# EAGLE library part GATE_DRIVER (library VESC_SHIT)
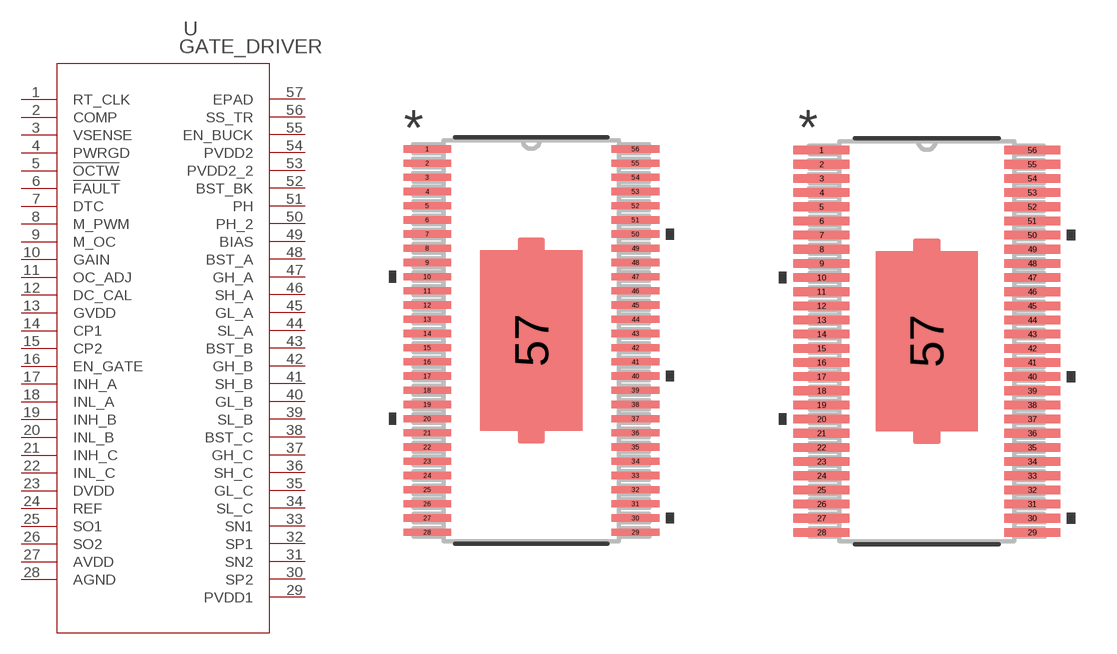
[diagram p3: symbol with the pads of DCA56_6P35X3P61; footprints DCA56_6P35X3P61, DCA56_6P35X3P61-M]

Designator prefix U

## GATE_DRIVER (MANUFACTURER_PART_NUMBER: DRV8302DCAR; VENDOR: Texas Instruments)  [DCA56_6P35X3P61]
1  RT_CLK  in
2  COMP  out
3  VSENSE  in
4  PWRGD  in
5  !OCTW  out
6  !FAULT  out
7  DTC  in
8  M_PWM  in
9  M_OC  in
10  GAIN  out
11  OC_ADJ  in
12  DC_CAL  in
13  GVDD  pwr
14  CP1  pwr
15  CP2  pwr
16  EN_GATE  in
17  INH_A  in
18  INL_A  in
19  INH_B  in
20  INL_B  in
21  INH_C  in
22  INL_C  in
23  DVDD  pwr
24  REF  in
25  SO1  out
26  SO2  out
27  AVDD  pwr
28  AGND  pwr
29  PVDD1  pwr
30  SP2  in
31  SN2  in
32  SP1  in
33  SN1  in
34  SL_C  in
35  GL_C  out
36  SH_C  in
37  GH_C  out
38  BST_C  pwr
39  SL_B  in
40  GL_B  out
41  SH_B  in
42  GH_B  out
43  BST_B  pwr
44  SL_A  in
45  GL_A  out
46  SH_A  in
47  GH_A  out
48  BST_A  pwr
49  BIAS  in
50  PH_2  out
51  PH  out
52  BST_BK  pwr
53  PVDD2_2  pwr
54  PVDD2  pwr
55  EN_BUCK  in
56  SS_TR  in
57  EPAD  pas

## GATE_DRIVERDCA56_6P35X3P61-M (MANUFACTURER_PART_NUMBER: DRV8302DCAR; VENDOR: Texas Instruments)  [DCA56_6P35X3P61-M]
Pads as for DCA56_6P35X3P61

## GATE_DRIVERDCA56_6P35X3P61-L (MANUFACTURER_PART_NUMBER: DRV8302DCAR; VENDOR: Texas Instruments)  [DCA56_6P35X3P61-L]
Pads as for DCA56_6P35X3P61

## Footprint DCA56_6P35X3P61 (pad centres in mm)
smd 1.676 x 0.254: 1 -3.67,6.75; 2 -3.67,6.25; 3 -3.67,5.75; 4 -3.67,5.25; 5 -3.67,4.75; 6 -3.67,4.25; 7 -3.67,3.75; 8 -3.67,3.25; 9 -3.67,2.75; 10 -3.67,2.25; 11 -3.67,1.75; 12 -3.67,1.25; 13 -3.67,0.75; 14 -3.67,0.25; 15 -3.67,-0.25; 16 -3.67,-0.75; 17 -3.67,-1.25; 18 -3.67,-1.75; 19 -3.67,-2.25; 20 -3.67,-2.75; 21 -3.67,-3.25; 22 -3.67,-3.75; 23 -3.67,-4.25; 24 -3.67,-4.75; 25 -3.67,-5.25; 26 -3.67,-5.75; 27 -3.67,-6.25; 28 -3.67,-6.75; 29 3.67,-6.75; 30 3.67,-6.25; 31 3.67,-5.75; 32 3.67,-5.25; 33 3.67,-4.75; 34 3.67,-4.25; 35 3.67,-3.75; 36 3.67,-3.25; 37 3.67,-2.75; 38 3.67,-2.25; 39 3.67,-1.75; 40 3.67,-1.25; 41 3.67,-0.75; 42 3.67,-0.25; 43 3.67,0.25; 44 3.67,0.75; 45 3.67,1.25; 46 3.67,1.75; 47 3.67,2.25; 48 3.67,2.75; 49 3.67,3.25; 50 3.67,3.75; 51 3.67,4.25; 52 3.67,4.75; 53 3.67,5.25; 54 3.67,5.75; 55 3.67,6.25; 56 3.67,6.75
smd 3.61 x 6.35: 57 0,0

## Footprint DCA56_6P35X3P61-M (pad centres in mm)
smd 1.981 x 0.305: 1 -3.721,6.75; 2 -3.721,6.25; 3 -3.721,5.75; 4 -3.721,5.25; 5 -3.721,4.75; 6 -3.721,4.25; 7 -3.721,3.75; 8 -3.721,3.25; 9 -3.721,2.75; 10 -3.721,2.25; 11 -3.721,1.75; 12 -3.721,1.25; 13 -3.721,0.75; 14 -3.721,0.25; 15 -3.721,-0.25; 16 -3.721,-0.75; 17 -3.721,-1.25; 18 -3.721,-1.75; 19 -3.721,-2.25; 20 -3.721,-2.75; 21 -3.721,-3.25; 22 -3.721,-3.75; 23 -3.721,-4.25; 24 -3.721,-4.75; 25 -3.721,-5.25; 26 -3.721,-5.75; 27 -3.721,-6.25; 28 -3.721,-6.75; 29 3.721,-6.75; 30 3.721,-6.25; 31 3.721,-5.75; 32 3.721,-5.25; 33 3.721,-4.75; 34 3.721,-4.25; 35 3.721,-3.75; 36 3.721,-3.25; 37 3.721,-2.75; 38 3.721,-2.25; 39 3.721,-1.75; 40 3.721,-1.25; 41 3.721,-0.75; 42 3.721,-0.25; 43 3.721,0.25; 44 3.721,0.75; 45 3.721,1.25; 46 3.721,1.75; 47 3.721,2.25; 48 3.721,2.75; 49 3.721,3.25; 50 3.721,3.75; 51 3.721,4.25; 52 3.721,4.75; 53 3.721,5.25; 54 3.721,5.75; 55 3.721,6.25; 56 3.721,6.75
smd 3.61 x 6.35: 57 0,0

## Footprint DCA56_6P35X3P61-L (pad centres in mm)
smd 1.372 x 0.203: 1 -3.619,6.75; 2 -3.619,6.25; 3 -3.619,5.75; 4 -3.619,5.25; 5 -3.619,4.75; 6 -3.619,4.25; 7 -3.619,3.75; 8 -3.619,3.25; 9 -3.619,2.75; 10 -3.619,2.25; 11 -3.619,1.75; 12 -3.619,1.25; 13 -3.619,0.75; 14 -3.619,0.25; 15 -3.619,-0.25; 16 -3.619,-0.75; 17 -3.619,-1.25; 18 -3.619,-1.75; 19 -3.619,-2.25; 20 -3.619,-2.75; 21 -3.619,-3.25; 22 -3.619,-3.75; 23 -3.619,-4.25; 24 -3.619,-4.75; 25 -3.619,-5.25; 26 -3.619,-5.75; 27 -3.619,-6.25; 28 -3.619,-6.75; 29 3.619,-6.75; 30 3.619,-6.25; 31 3.619,-5.75; 32 3.619,-5.25; 33 3.619,-4.75; 34 3.619,-4.25; 35 3.619,-3.75; 36 3.619,-3.25; 37 3.619,-2.75; 38 3.619,-2.25; 39 3.619,-1.75; 40 3.619,-1.25; 41 3.619,-0.75; 42 3.619,-0.25; 43 3.619,0.25; 44 3.619,0.75; 45 3.619,1.25; 46 3.619,1.75; 47 3.619,2.25; 48 3.619,2.75; 49 3.619,3.25; 50 3.619,3.75; 51 3.619,4.25; 52 3.619,4.75; 53 3.619,5.25; 54 3.619,5.75; 55 3.619,6.25; 56 3.619,6.75
smd 3.61 x 6.35: 57 0,0